# Altium footprint library ASDX030G2.PcbLib: 1 footprints
Each footprint in its own frame and in the unit in brackets; x right, y up, seen from the top. Pads: shape width x height; smd on the part's side, far side on the other; paste and mask are expansions set on the pad; w line width, h text height; cw(c..) or ccw(c..) is an arc to the next point about the centre after c.
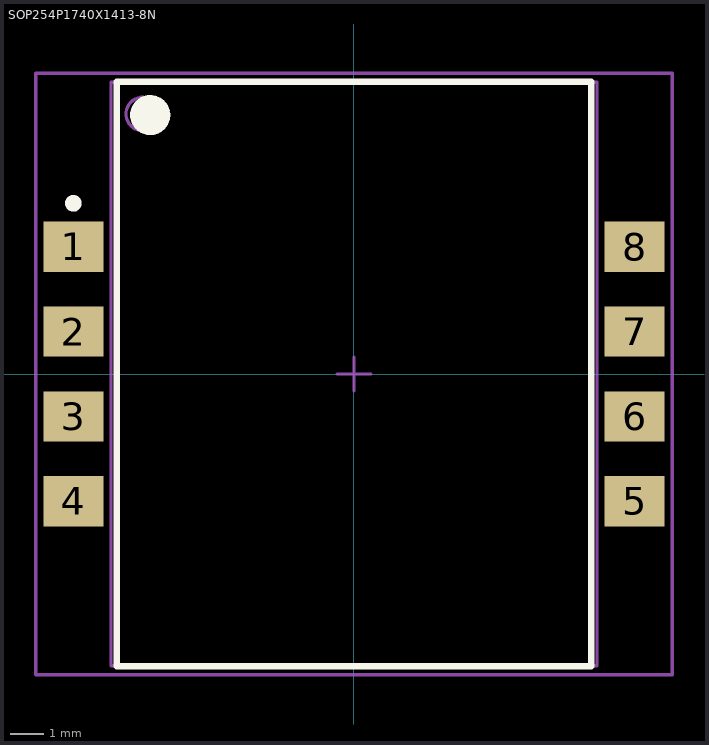
[diagram p0: the footprint, top view; thin cyan lines are the x and y axes]

## SOP254P1740X1413-8N [mm] "SOP, 8-Leads, Body 17.5x14.6mm (max), Pitch 2.54mm, IPC Medium Density"
height 14.13
pads (8):
  rect 1.8x1.5 smd: 1(-8.4,3.81) 2(-8.4,1.27) 3(-8.4,-1.27) 4(-8.4,-3.81) 5(8.4,-3.81) 6(8.4,-1.27) 7(8.4,1.27) 8(8.4,3.81)
Top Overlay:
  circle w0.6: c-6.1,7.75 r0.3
  circle w0.25: c-8.4,5.11 r0.125
  lines w0.2: -7.1,-8.75 7.1,-8.75 7.1,8.75 -7.1,8.75 -7.1,-8.75
Mechanical 13:
  circle w0.1: c-6.325,7.785 r0.5
  lines w0.1: -7.275,-8.735 7.275,-8.735 7.275,8.735 -7.275,8.735 -7.275,-8.735
Mechanical 15:
  lines w0.1: -0.5,0 0.5,0 ; 0,-0.5 0,0.5 ; -9.525,-9 9.525,-9 9.525,9 -9.525,9 -9.525,-9
3D body: height 14.13, standoff 2, extent -7.275,-8.735 7.275,8.735